# Altium footprint library IPC-SM-782 Section 9.3 SOP.PcbLib: 16 footprints
Each footprint in its own frame and in the unit in brackets; x right, y up, seen from the top. Pads: shape width x height; smd on the part's side, far side on the other; paste and mask are expansions set on the pad; w line width, h text height; cw(c..) or ccw(c..) is an arc to the next point about the centre after c.
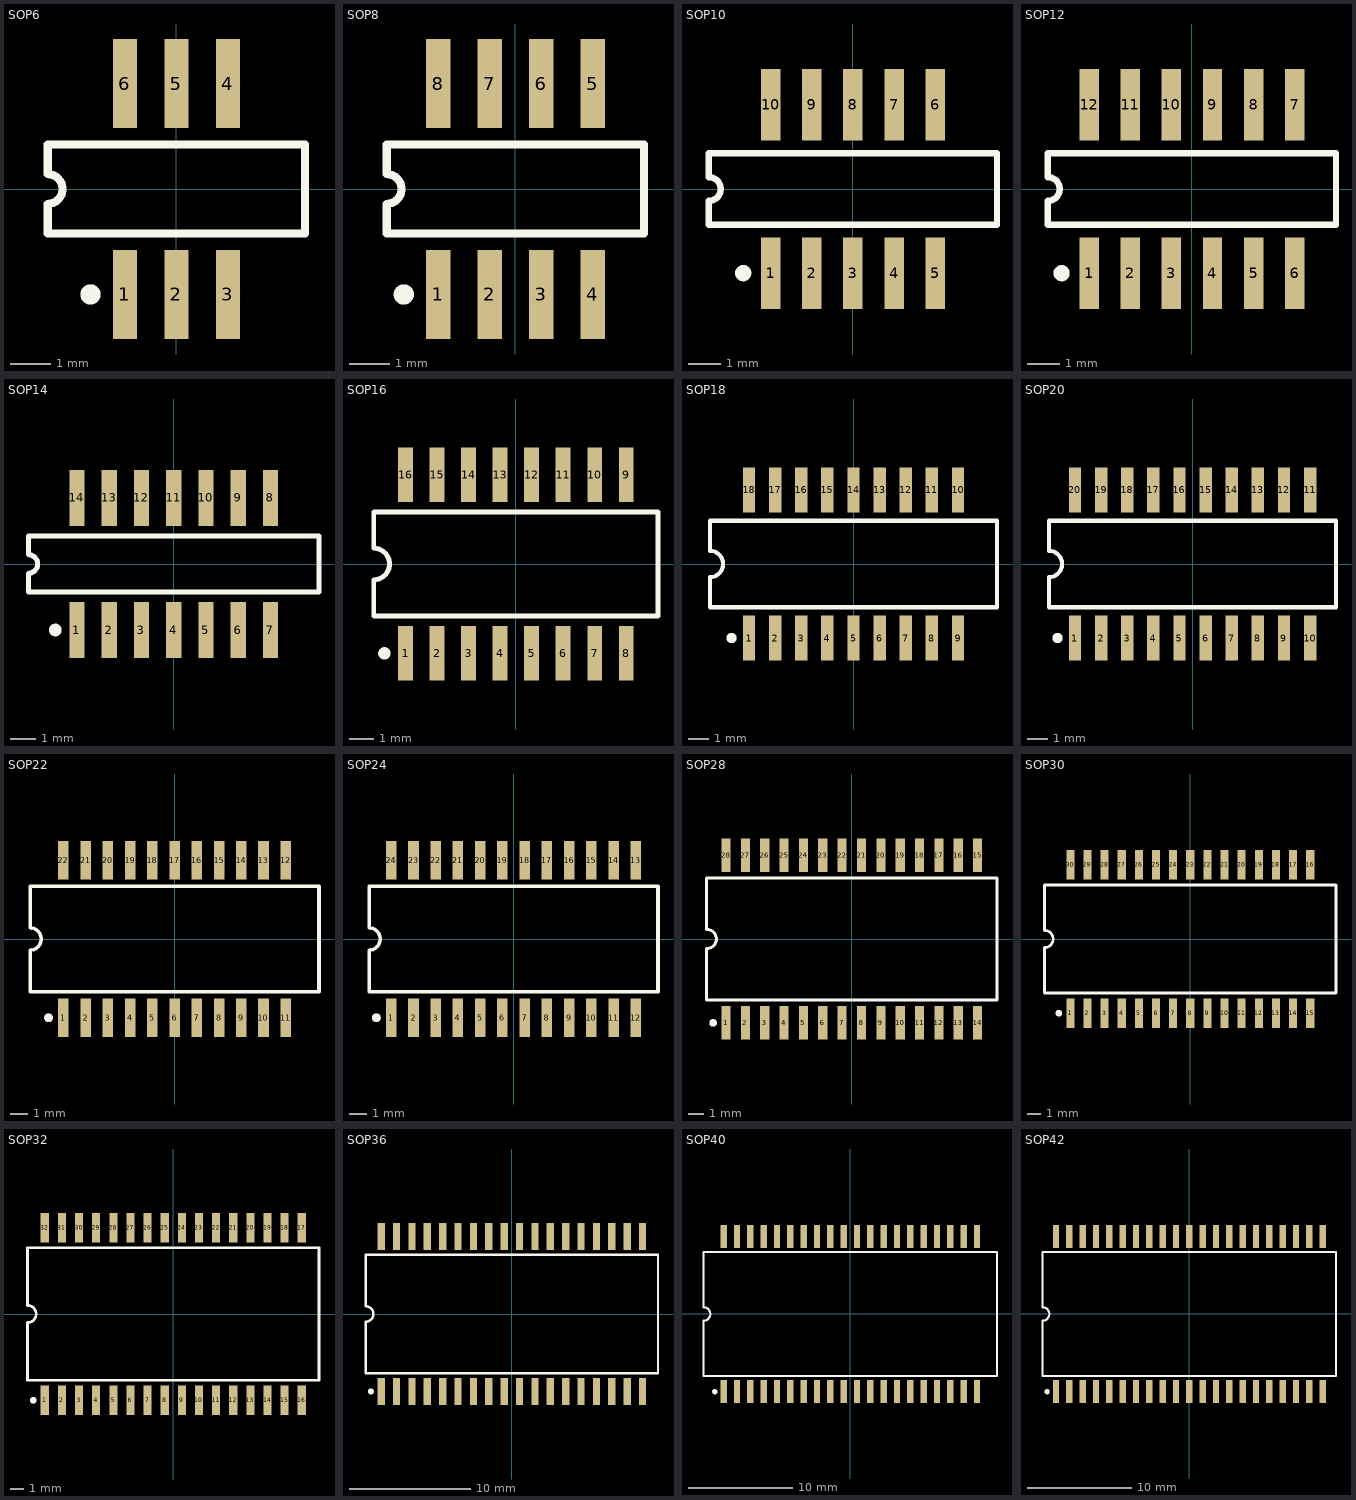
[diagram p0: the footprints below, top view; thin cyan lines are the x and y axes]

## SOP6 [mm] "Small Outline; 6 Leads; Body Width 4.3 mm; Pitch 1.27 mm"
height 1.5
pads (6):
  rect 0.6x2.2 smd: 1(-1.27,-2.6) 2(0,-2.6) 3(1.27,-2.6) 4(1.27,2.6) 5(0,2.6) 6(-1.27,2.6)
Top Overlay:
  circle w0.25: c-2.12,-2.6 r0.125
  lines w0.2: -3.175,-1.1 -3.175,-0.367 ccw(c-3.175,0) -3.175,0.367 -3.175,1.1 3.175,1.1 3.175,-1.1 -3.175,-1.1

## SOP8 [mm] "Small Outline; 8 Leads; Body Width 4.3 mm; Pitch 1.27 mm"
height 1.5
pads (8):
  rect 0.6x2.2 smd: 1(-1.905,-2.6) 2(-0.635,-2.6) 3(0.635,-2.6) 4(1.905,-2.6) 5(1.905,2.6) 6(0.635,2.6) 7(-0.635,2.6) 8(-1.905,2.6)
Top Overlay:
  circle w0.25: c-2.755,-2.6 r0.125
  lines w0.2: -3.175,-1.1 3.175,-1.1 3.175,1.1 -3.175,1.1 -3.175,0.367 cw(c-3.175,0) -3.175,-0.367 -3.175,-1.1

## SOP10 [mm] "Small Outline; 10 Leads; Body Width 4.3 mm; Pitch 1.27 mm"
height 1.5
pads (10):
  rect 0.6x2.2 smd: 1(-2.54,-2.6) 2(-1.27,-2.6) 3(0,-2.6) 4(1.27,-2.6) 5(2.54,-2.6) 6(2.54,2.6) 7(1.27,2.6) 8(0,2.6) 9(-1.27,2.6) 10(-2.54,2.6)
Top Overlay:
  circle w0.25: c-3.39,-2.6 r0.125
  lines w0.2: -4.45,-1.1 4.45,-1.1 4.45,1.1 -4.45,1.1 -4.45,0.367 cw(c-4.45,0) -4.45,-0.367 -4.45,-1.1

## SOP12 [mm] "Small Outline; 12 Leads; Body Width 4.3 mm; Pitch 1.27 mm"
height 1.5
pads (12):
  rect 0.6x2.2 smd: 1(-3.175,-2.6) 2(-1.905,-2.6) 3(-0.635,-2.6) 4(0.635,-2.6) 5(1.905,-2.6) 6(3.175,-2.6) 7(3.175,2.6) 8(1.905,2.6) 9(0.635,2.6) 10(-0.635,2.6) 11(-1.905,2.6) 12(-3.175,2.6)
Top Overlay:
  circle w0.25: c-4.025,-2.6 r0.125
  lines w0.2: -4.45,-1.1 -4.45,-0.367 ccw(c-4.45,0) -4.45,0.367 -4.45,1.1 4.45,1.1 4.45,-1.1 -4.45,-1.1

## SOP14 [mm] "Small Outline; 14 Leads; Body Width 4.3 mm; Pitch 1.27 mm"
height 1.5
pads (14):
  rect 0.6x2.2 smd: 1(-3.81,-2.6) 2(-2.54,-2.6) 3(-1.27,-2.6) 4(0,-2.6) 5(1.27,-2.6) 6(2.54,-2.6) 7(3.81,-2.6) 8(3.81,2.6) 9(2.54,2.6) 10(1.27,2.6) 11(0,2.6) 12(-1.27,2.6) 13(-2.54,2.6) 14(-3.81,2.6)
Top Overlay:
  circle w0.25: c-4.66,-2.6 r0.125
  lines w0.2: -5.725,-1.1 5.725,-1.1 5.725,1.1 -5.725,1.1 -5.725,0.367 cw(c-5.725,0) -5.725,-0.367 -5.725,-1.1

## SOP16 [mm] "Small Outline; 16 Leads; Body Width 5.6 mm; Pitch 1.27 mm"
height 2
pads (16):
  rect 0.6x2.2 smd: 1(-4.445,-3.6) 2(-3.175,-3.6) 3(-1.905,-3.6) 4(-0.635,-3.6) 5(0.635,-3.6) 6(1.905,-3.6) 7(3.175,-3.6) 8(4.445,-3.6) 9(4.445,3.6) 10(3.175,3.6) 11(1.905,3.6) 12(0.635,3.6) 13(-0.635,3.6) 14(-1.905,3.6) 15(-3.175,3.6) 16(-4.445,3.6)
Top Overlay:
  circle w0.25: c-5.295,-3.6 r0.125
  lines w0.2: -5.725,-2.1 -5.725,-0.635 ccw(c-5.725,0) -5.725,0.635 -5.725,2.1 5.725,2.1 5.725,-2.1 -5.725,-2.1

## SOP18 [mm] "Small Outline; 18 Leads; Body Width 5.6 mm; Pitch 1.27 mm"
height 2
pads (18):
  rect 0.6x2.2 smd: 1(-5.08,-3.6) 2(-3.81,-3.6) 3(-2.54,-3.6) 4(-1.27,-3.6) 5(0,-3.6) 6(1.27,-3.6) 7(2.54,-3.6) 8(3.81,-3.6) 9(5.08,-3.6) 10(5.08,3.6) 11(3.81,3.6) 12(2.54,3.6) 13(1.27,3.6) 14(0,3.6) 15(-1.27,3.6) 16(-2.54,3.6) 17(-3.81,3.6) 18(-5.08,3.6)
Top Overlay:
  circle w0.25: c-5.93,-3.6 r0.125
  lines w0.2: -6.975,-2.1 -6.975,-0.635 ccw(c-6.975,0) -6.975,0.635 -6.975,2.1 6.975,2.1 6.975,-2.1 -6.975,-2.1

## SOP20 [mm] "Small Outline; 20 Leads; Body Width 5.6 mm; Pitch 1.27 mm"
height 2
pads (20):
  rect 0.6x2.2 smd: 1(-5.715,-3.6) 2(-4.445,-3.6) 3(-3.175,-3.6) 4(-1.905,-3.6) 5(-0.635,-3.6) 6(0.635,-3.6) 7(1.905,-3.6) 8(3.175,-3.6) 9(4.445,-3.6) 10(5.715,-3.6) 11(5.715,3.6) 12(4.445,3.6) 13(3.175,3.6) 14(1.905,3.6) 15(0.635,3.6) 16(-0.635,3.6) 17(-1.905,3.6) 18(-3.175,3.6) 19(-4.445,3.6) 20(-5.715,3.6)
Top Overlay:
  circle w0.25: c-6.565,-3.6 r0.125
  lines w0.2: -6.975,-2.1 6.975,-2.1 6.975,2.1 -6.975,2.1 -6.975,0.635 cw(c-6.975,0) -6.975,-0.635 -6.975,-2.1

## SOP22 [mm] "Small Outline; 22 Leads; Body Width 7.2 mm; Pitch 1.27 mm"
height 2.5
pads (22):
  rect 0.6x2.2 smd: 1(-6.35,-4.5) 2(-5.08,-4.5) 3(-3.81,-4.5) 4(-2.54,-4.5) 5(-1.27,-4.5) 6(0,-4.5) 7(1.27,-4.5) 8(2.54,-4.5) 9(3.81,-4.5) 10(5.08,-4.5) 11(6.35,-4.5) 12(6.35,4.5) 13(5.08,4.5) 14(3.81,4.5) 15(2.54,4.5) 16(1.27,4.5) 17(0,4.5) 18(-1.27,4.5) 19(-2.54,4.5) 20(-3.81,4.5) 21(-5.08,4.5) 22(-6.35,4.5)
Top Overlay:
  circle w0.25: c-7.2,-4.5 r0.125
  lines w0.2: -8.25,-3 -8.25,-0.635 ccw(c-8.25,0) -8.25,0.635 -8.25,3 8.25,3 8.25,-3 -8.25,-3

## SOP24 [mm] "Small Outline; 24 Leads; Body Width 7.2 mm; Pitch 1.27 mm"
height 2.5
pads (24):
  rect 0.6x2.2 smd: 1(-6.985,-4.5) 2(-5.715,-4.5) 3(-4.445,-4.5) 4(-3.175,-4.5) 5(-1.905,-4.5) 6(-0.635,-4.5) 7(0.635,-4.5) 8(1.905,-4.5) 9(3.175,-4.5) 10(4.445,-4.5) 11(5.715,-4.5) 12(6.985,-4.5) 13(6.985,4.5) 14(5.715,4.5) 15(4.445,4.5) 16(3.175,4.5) 17(1.905,4.5) 18(0.635,4.5) 19(-0.635,4.5) 20(-1.905,4.5) 21(-3.175,4.5) 22(-4.445,4.5) 23(-5.715,4.5) 24(-6.985,4.5)
Top Overlay:
  circle w0.25: c-7.835,-4.5 r0.125
  lines w0.2: -8.25,-3 8.25,-3 8.25,3 -8.25,3 -8.25,0.635 cw(c-8.25,0) -8.25,-0.635 -8.25,-3

## SOP28 [mm] "Small Outline; 28 Leads; Body Width 9.1 mm; Pitch 1.27 mm"
height 3
pads (28):
  rect 0.6x2.2 smd: 1(-8.255,-5.5) 2(-6.985,-5.5) 3(-5.715,-5.5) 4(-4.445,-5.5) 5(-3.175,-5.5) 6(-1.905,-5.5) 7(-0.635,-5.5) 8(0.635,-5.5) 9(1.905,-5.5) 10(3.175,-5.5) 11(4.445,-5.5) 12(5.715,-5.5) 13(6.985,-5.5) 14(8.255,-5.5) 15(8.255,5.5) 16(6.985,5.5) 17(5.715,5.5) 18(4.445,5.5) 19(3.175,5.5) 20(1.905,5.5) 21(0.635,5.5) 22(-0.635,5.5) 23(-1.905,5.5) 24(-3.175,5.5) 25(-4.445,5.5) 26(-5.715,5.5) 27(-6.985,5.5) 28(-8.255,5.5)
Top Overlay:
  circle w0.25: c-9.105,-5.5 r0.125
  lines w0.2: -9.525,-4 9.525,-4 9.525,4 -9.525,4 -9.525,0.635 cw(c-9.525,0) -9.525,-0.635 -9.525,-4

## SOP30 [mm] "Small Outline; 30 Leads; Body Width 9.1 mm; Pitch 1.27 mm"
height 3
pads (30):
  rect 0.6x2.2 smd: 1(-8.89,-5.5) 2(-7.62,-5.5) 3(-6.35,-5.5) 4(-5.08,-5.5) 5(-3.81,-5.5) 6(-2.54,-5.5) 7(-1.27,-5.5) 8(0,-5.5) 9(1.27,-5.5) 10(2.54,-5.5) 11(3.81,-5.5) 12(5.08,-5.5) 13(6.35,-5.5) 14(7.62,-5.5) 15(8.89,-5.5) 16(8.89,5.5) 17(7.62,5.5) 18(6.35,5.5) 19(5.08,5.5) 20(3.81,5.5) 21(2.54,5.5) 22(1.27,5.5) 23(0,5.5) 24(-1.27,5.5) 25(-2.54,5.5) 26(-3.81,5.5) 27(-5.08,5.5) 28(-6.35,5.5) 29(-7.62,5.5) 30(-8.89,5.5)
Top Overlay:
  circle w0.25: c-9.74,-5.5 r0.125
  lines w0.2: -10.8,-4 10.8,-4 10.8,4 -10.8,4 -10.8,0.635 cw(c-10.8,0) -10.8,-0.635 -10.8,-4

## SOP32 [mm] "Small Outline; 32 Leads; Body Width 11 mm; Pitch 1.27 mm"
height 3.5
pads (32):
  rect 0.6x2.2 smd: 1(-9.525,-6.4) 2(-8.255,-6.4) 3(-6.985,-6.4) 4(-5.715,-6.4) 5(-4.445,-6.4) 6(-3.175,-6.4) 7(-1.905,-6.4) 8(-0.635,-6.4) 9(0.635,-6.4) 10(1.905,-6.4) 11(3.175,-6.4) 12(4.445,-6.4) 13(5.715,-6.4) 14(6.985,-6.4) 15(8.255,-6.4) 16(9.525,-6.4) 17(9.525,6.4) 18(8.255,6.4) 19(6.985,6.4) 20(5.715,6.4) 21(4.445,6.4) 22(3.175,6.4) 23(1.905,6.4) 24(0.635,6.4) 25(-0.635,6.4) 26(-1.905,6.4) 27(-3.175,6.4) 28(-4.445,6.4) 29(-5.715,6.4) 30(-6.985,6.4) 31(-8.255,6.4) 32(-9.525,6.4)
Top Overlay:
  circle w0.25: c-10.375,-6.4 r0.125
  lines w0.2: -10.8,-4.9 -10.8,-0.635 ccw(c-10.8,0) -10.8,0.635 -10.8,4.9 10.8,4.9 10.8,-4.9 -10.8,-4.9

## SOP36 [mm] "Small Outline; 36 Leads; Body Width 11 mm; Pitch 1.27 mm"
height 3.5
pads (36):
  rect 0.6x2.2 smd: 1(-10.795,-6.4) 2(-9.525,-6.4) 3(-8.255,-6.4) 4(-6.985,-6.4) 5(-5.715,-6.4) 6(-4.445,-6.4) 7(-3.175,-6.4) 8(-1.905,-6.4) 9(-0.635,-6.4) 10(0.635,-6.4) 11(1.905,-6.4) 12(3.175,-6.4) 13(4.445,-6.4) 14(5.715,-6.4) 15(6.985,-6.4) 16(8.255,-6.4) 17(9.525,-6.4) 18(10.795,-6.4) 19(10.795,6.4) 20(9.525,6.4) 21(8.255,6.4) 22(6.985,6.4) 23(5.715,6.4) 24(4.445,6.4) 25(3.175,6.4) 26(1.905,6.4) 27(0.635,6.4) 28(-0.635,6.4) 29(-1.905,6.4) 30(-3.175,6.4) 31(-4.445,6.4) 32(-5.715,6.4) 33(-6.985,6.4) 34(-8.255,6.4) 35(-9.525,6.4) 36(-10.795,6.4)
Top Overlay:
  circle w0.25: c-11.645,-6.4 r0.125
  lines w0.2: -12.075,-4.9 12.075,-4.9 12.075,4.9 -12.075,4.9 -12.075,0.635 cw(c-12.075,0) -12.075,-0.635 -12.075,-4.9

## SOP40 [mm] "Small Outline; 40 Leads; Body Width 12.9 mm; Pitch 1.27 mm"
height 4
pads (40):
  rect 0.6x2.2 smd: 1(-12.065,-7.4) 2(-10.795,-7.4) 3(-9.525,-7.4) 4(-8.255,-7.4) 5(-6.985,-7.4) 6(-5.715,-7.4) 7(-4.445,-7.4) 8(-3.175,-7.4) 9(-1.905,-7.4) 10(-0.635,-7.4) 11(0.635,-7.4) 12(1.905,-7.4) 13(3.175,-7.4) 14(4.445,-7.4) 15(5.715,-7.4) 16(6.985,-7.4) 17(8.255,-7.4) 18(9.525,-7.4) 19(10.795,-7.4) 20(12.065,-7.4) 21(12.065,7.4) 22(10.795,7.4) 23(9.525,7.4) 24(8.255,7.4) 25(6.985,7.4) 26(5.715,7.4) 27(4.445,7.4) 28(3.175,7.4) 29(1.905,7.4) 30(0.635,7.4) 31(-0.635,7.4) 32(-1.905,7.4) 33(-3.175,7.4) 34(-4.445,7.4) 35(-5.715,7.4) 36(-6.985,7.4) 37(-8.255,7.4) 38(-9.525,7.4) 39(-10.795,7.4) 40(-12.065,7.4)
Top Overlay:
  circle w0.25: c-12.915,-7.4 r0.125
  lines w0.2: -13.975,-5.9 -13.975,-0.635 ccw(c-13.975,0) -13.975,0.635 -13.975,5.9 13.975,5.9 13.975,-5.9 -13.975,-5.9

## SOP42 [mm] "Small Outline; 42 Leads; Body Width 12.9 mm; Pitch 1.27 mm"
height 4
pads (42):
  rect 0.6x2.2 smd: 1(-12.7,-7.4) 2(-11.43,-7.4) 3(-10.16,-7.4) 4(-8.89,-7.4) 5(-7.62,-7.4) 6(-6.35,-7.4) 7(-5.08,-7.4) 8(-3.81,-7.4) 9(-2.54,-7.4) 10(-1.27,-7.4) 11(0,-7.4) 12(1.27,-7.4) 13(2.54,-7.4) 14(3.81,-7.4) 15(5.08,-7.4) 16(6.35,-7.4) 17(7.62,-7.4) 18(8.89,-7.4) 19(10.16,-7.4) 20(11.43,-7.4) 21(12.7,-7.4) 22(12.7,7.4) 23(11.43,7.4) 24(10.16,7.4) 25(8.89,7.4) 26(7.62,7.4) 27(6.35,7.4) 28(5.08,7.4) 29(3.81,7.4) 30(2.54,7.4) 31(1.27,7.4) 32(0,7.4) 33(-1.27,7.4) 34(-2.54,7.4) 35(-3.81,7.4) 36(-5.08,7.4) 37(-6.35,7.4) 38(-7.62,7.4) 39(-8.89,7.4) 40(-10.16,7.4) 41(-11.43,7.4) 42(-12.7,7.4)
Top Overlay:
  circle w0.25: c-13.55,-7.4 r0.125
  lines w0.2: -13.975,-5.9 -13.975,-0.635 ccw(c-13.975,0) -13.975,0.635 -13.975,5.9 13.975,5.9 13.975,-5.9 -13.975,-5.9